# Altium footprint library SelfDrivingCar_PCB.PcbLib: 33 footprints (part 1 of 3)
Each footprint in its own frame and in the unit in brackets; x right, y up, seen from the top. Pads: shape width x height; smd on the part's side, far side on the other; paste and mask are expansions set on the pad; w line width, h text height; cw(c..) or ccw(c..) is an arc to the next point about the centre after c.
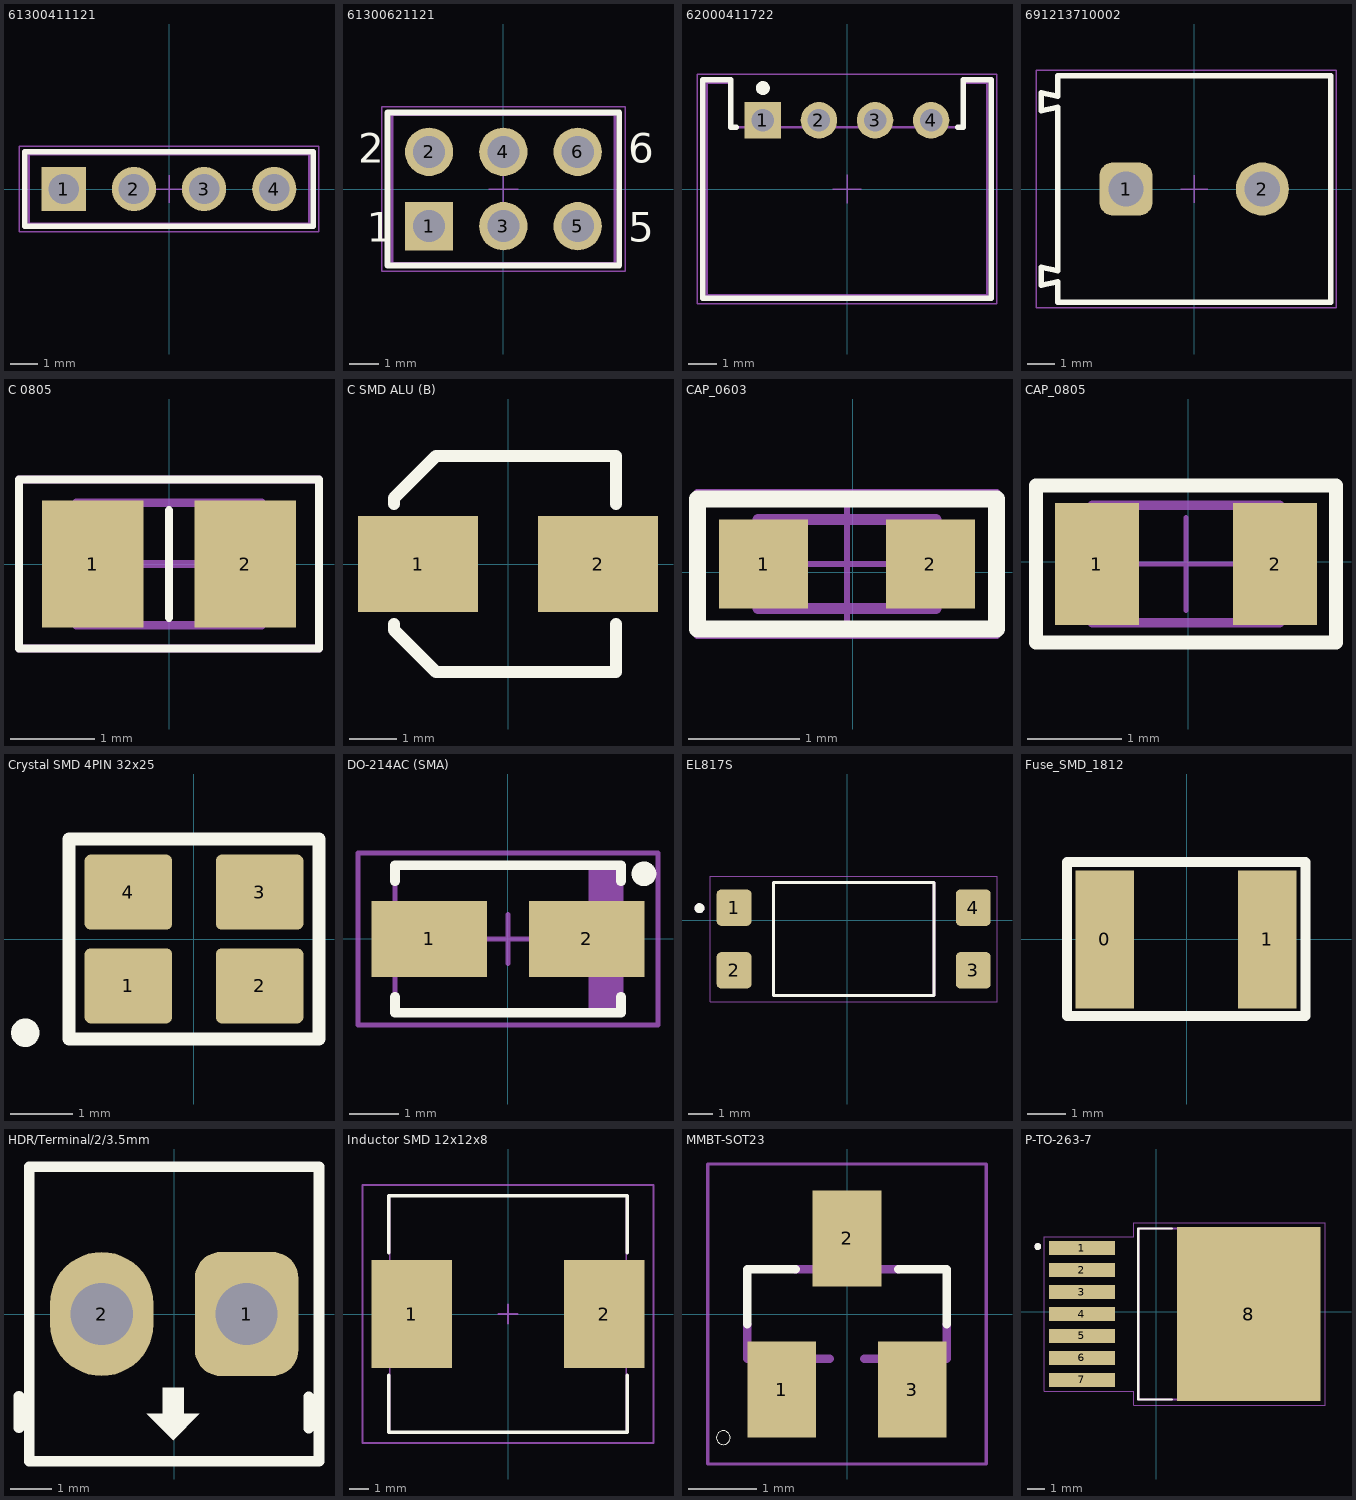
[diagram p0: the footprints below, top view; thin cyan lines are the x and y axes]

## 61300411121 [mm]
pads (4):
  rect 1.6x1.6 hole 1.1: 1(-3.81,0)
  round 1.6 hole 1.1: 2(-1.27,0) 3(1.27,0) 4(3.81,0)
Top Overlay:
  lines w0.2: -5.23,-1.345 5.23,-1.345 5.23,1.345 -5.23,1.345 -5.23,-1.345
Mechanical 13:
  lines w0.1: -5.08,-1.27 -5.08,1.27 5.08,1.27 5.08,-1.27 -5.08,-1.27
Mechanical 15:
  lines w0.05: -0.5,0 0.5,0 ; 0,-0.5 0,0.5 ; -5.43,-1.545 -5.43,1.545 5.43,1.545 5.43,-1.545 -5.43,-1.545
3D body "61300411121.stp": height 8.57, standoff -2.97, extent -5.08,-1.27 5.08,1.27

## 61300621121 [mm]
pads (6):
  rect 1.65x1.65 hole 1.1: 1(-2.54,-1.27)
  round 1.65 hole 1.1: 2(-2.54,1.27) 3(0,-1.27) 4(0,1.27) 5(2.54,-1.27) 6(2.54,1.27)
Top Overlay:
  lines w0.2: -3.96,-2.615 3.96,-2.615 3.96,2.615 -3.96,2.615 -3.96,-2.615
  text "6" at 4.27,0.9 h1.02
  text "5" at 4.27,-1.8 h1.02
  text "2" at -4.97,0.9 h1.02
  text "1" at -4.67,-1.8 h1.02
Mechanical 13:
  lines w0.1: -3.81,-2.54 3.81,-2.54 3.81,2.54 -3.81,2.54 -3.81,-2.54
Mechanical 15:
  lines w0.05: -0.5,0 0.5,0 ; 0,-0.5 0,0.5 ; -4.16,-2.815 -4.16,2.815 4.16,2.815 4.16,-2.815 -4.16,-2.815
3D body "61300621121.stp": height 8.59, standoff -2.95, extent -3.81,-2.54 3.81,2.54

## 62000411722 [mm]
pads (4):
  rect 1.3x1.3 hole 0.8: 1(-3,2.45)
  round 1.3 hole 0.8: 2(-1,2.45) 3(1,2.45) 4(3,2.45)
Top Overlay:
  circle w0.25: c-3,3.6 r0.125
  lines w0.2: -3.95,2.2 -4.15,2.2 -4.15,3.9 -5.15,3.9 -5.15,-3.9 5.15,-3.9 5.15,3.9 4.15,3.9 4.15,2.2 3.95,2.2
Mechanical 13:
  lines w0.1: -5,-3.8 5,-3.8 5,3.8 4.15,3.8 4.15,2.2 -4.15,2.2 -4.15,3.8 -5,3.8 -5,-3.8
Mechanical 15:
  lines w0.05: -0.5,0 0.5,0 ; 0,-0.5 0,0.5 ; -5.35,-4.1 -5.35,4.1 5.35,4.1 5.35,-4.1 -5.35,-4.1
3D body "62000411722.stp": height 4.83, standoff -3.27, extent -5,-3.8 5,3.8

## 691213710002 [mm]
pads (2):
  rrect50% 1.95x1.95 hole 1.3: 1(-2.5,0)
  round 1.95 hole 1.3: 2(2.5,0)
Top Overlay:
  lines w0.2: -5.6,-3.525 -5.6,-2.875 -5,-3 -5,3 -5.6,2.875 -5.6,3.525 -5,3.4 -5,4.15 5,4.15 5,-4.15 -5,-4.15 -5,-3.4 -5.6,-3.525
Top Courtyard:
  lines w0.05: -5.8,-4.35 5.2,-4.35 5.2,4.35 -5.8,4.35 -5.8,-4.35
Top 3D Body:
  lines w0.1: -5.6,-3.525 -5.6,-2.875 -5,-3 -5,3 -5.6,2.875 -5.6,3.525 -5,3.4 -5,4.15 5,4.15 5,-4.15 -5,-4.15 -5,-3.4 -5.6,-3.525
Top Designator:
  text ".Designator" at -7.498,-0.5 h1.5
Top Component Outline:
  lines w0.1: -5.6,-3.525 -5,-3.4 -5,-4.15 5,-4.15 5,4.15 -5,4.15 -5,3.4 -5.6,3.525 -5.6,2.875 -5,3 -5,-3 -5.6,-2.875 -5.6,-3.525
Top Component Center:
  lines w0.05: -0.5,0 0.5,0 ; 0,-0.5 0,0.5
3D body "691213710002.stp": height 10.05, standoff -3.75, extent -5.6,-4.15 5,4.15

## C 0805 [mm]
pads (2):
  rect 1.2x1.5 smd: 1(-0.9,0) 2(0.9,0)
Top Overlay:
  lines w0.1: 0,-0.635 0,0.635 ; -1.775,-1 -1.775,1 1.775,1 1.775,-1 -1.775,-1
Mechanical 13:
  lines w0.1: -1.1,-0.725 -1.1,0.725 1.1,0.725 1.1,-0.725 -1.1,-0.725
Mechanical 15:
  lines w0.1: -0.5,0 0.5,0 ; 0,-0.5 0,0.5 ; -1.775,-1 1.775,-1 1.775,1 -1.775,1 -1.775,-1
3D body "cap 0805.step": height 0.6, standoff 0, extent -1,-0.64 1,0.61

## C SMD ALU (B) [mil]
pads (2):
  rect 100x80 smd: 1(-75,0) 2(75,0)
Top Overlay:
  lines w10: -95,-50 -95,-55 -60,-90 90,-90 90,-50 ; -95,50 -95,55 -60,90 90,90 90,50
3D body "User Library-ALU-B.STEP": height 212.6, standoff 0, extent -90.56,-84.65 90.54,84.64

## CAP_0603 [mm]
pads (2):
  rect 0.8x0.8 smd: 1(-0.801,0.076) 2(0.699,0.076)
Top Overlay:
  lines w0.152: -1.395,-0.508 -1.395,0.66 -1.219,0.66 1.295,0.66 1.295,-0.508 -1.395,-0.508
Mechanical 13:
  lines w0.1: -0.851,-0.324 0.749,-0.324 0.749,0.476 -0.851,0.476 -0.851,-0.324
Mechanical 15:
  lines w0.05: -0.551,0.076 0.449,0.076 ; -0.051,-0.424 -0.051,0.576 ; -1.401,-0.574 1.299,-0.574 1.299,0.726 -1.401,0.726 -1.401,-0.574
3D body "1.6x0.8x0.8x0.4.stp": height 0.8, standoff 0, extent -0.851,-0.324 0.749,0.476

## CAP_0805 [mm]
pads (2):
  rect 0.9x1.3 smd: 1(-0.975,-0.025) 2(0.925,-0.025)
Top Overlay:
  lines w0.152: -1.626,-0.864 -1.626,0.813 -1.473,0.813 1.575,0.813 1.575,-0.864 -1.626,-0.864
Mechanical 13:
  lines w0.1: -1.025,-0.65 0.975,-0.65 0.975,0.6 -1.025,0.6 -1.025,-0.65
Mechanical 15:
  lines w0.05: -0.525,-0.025 0.475,-0.025 ; -0.025,-0.525 -0.025,0.475 ; -1.625,-0.9 -1.625,0.85 1.575,0.85 1.575,-0.9 -1.625,-0.9
3D body "2x1.25x0.6x0.5.stp": height 0.6, standoff 0, extent -1.025,-0.65 0.975,0.6

## Crystal SMD 4PIN 32x25 [mm]
pads (4):
  rrect15% 1.4x1.2 smd: 1(-1.05,-0.75) 2(1.05,-0.75) 3(1.05,0.75) 4(-1.05,0.75)
Top Overlay:
  circle w0.254: c-2.7,-1.5 r0.1
  lines w0.203: -2,-1.6 2,-1.6 2,1.6 -2,1.6 -2,-1.6
3D body "User Library-User Library-Siward_SX3225.step": height 0.81, standoff 0, extent -1.6,-1.25 1.6,1.25

## DO-214AC (SMA) [mm]
pads (2):
  rect 2.35x1.55 smd: 1(-1.6,0) 2(1.6,0)
Top Overlay:
  circle w0.25: c2.765,1.325 r0.125
  lines w0.2: -2.3,-1.175 -2.3,-1.5 2.3,-1.5 2.3,-1.175 ; -2.3,1.175 -2.3,1.5 2.3,1.5 2.3,1.175
Mechanical 13:
  rectangle: 1.637,-1.45 2.256,1.45
  lines w0.1: -2.3,-1.45 2.3,-1.45 2.3,1.45 -2.3,1.45 -2.3,-1.45
Mechanical 15:
  lines w0.1: -0.5,0 0.5,0 ; 0,-0.5 0,0.5 ; -3.05,-1.75 3.05,-1.75 3.05,1.75 -3.05,1.75 -3.05,-1.75
3D body "User Library-DO-214AC SMA.step": height 2.4, standoff 0, extent -2.6,-1.295 2.6,1.305

## EL817S [mm]
pads (4):
  rrect25% 1.41x1.47 smd: 1(-4.596,0.508) 2(-4.596,-2.032) 3(5.104,-2.032) 4(5.104,0.508)
Top Overlay:
  circle w0.2: c-5.996,0.488 r0.1
  lines w0.127: -2.996,-3.052 3.504,-3.052 3.504,1.528 -2.996,1.528 -2.996,-3.052
Mechanical 13:
  circle w0.2: c-5.996,0.488 r0.1
  lines w0.127: -2.996,-3.052 -2.996,1.528 3.504,1.528 3.504,-3.052 -2.996,-3.052
Mechanical 15:
  lines w0.05: -5.556,-3.302 -5.556,1.778 6.064,1.778 6.064,-3.302 -5.556,-3.302
3D body "step_temp.STEP": height 4.6, standoff 0, extent -4.896,-3.052 5.404,1.528

## Fuse_SMD_1812 [mil]
pads (2):
  rect 60x140 smd: 0(-83.41,0) 1(82,0)
Top Overlay:
  lines w10: -122,-78 -122,79 121,79 121,-78 -122,-78
3D body "miniSMDC150F.STEP": height 17.9, standoff -1, extent -93.11,-67.13 93.11,67.13

## HDR/Terminal/2/3.5mm [mm]
pads (2):
  rrect50% 2.5x3 hole 1.5: 1(1.75,0)
  oval 2.5x3 hole 1.5: 2(-1.75,0)
Top Overlay:
  region: -0.028,-3.048 0.607,-2.413 0.226,-2.413 0.226,-1.778 -0.282,-1.778 -0.282,-2.413 -0.663,-2.413
  lines w0.254: -3.75,-2.75 -3.75,-1.988 ; 3.25,-2.762 3.25,-2 ; -3.5,-3.556 -3.5,3.556 3.5,3.556 3.5,-3.556 -3.5,-3.556
3D body "User Library-Terminal Block 2 way 3.5mm.step": height 8.51, standoff -3.5, extent -3.556,-3.645 3.556,3.645

## Inductor SMD 12x12x8 [mm]
pads (2):
  rect 4.2x5.6 smd: 1(-5,0) 2(5,0)
Top Overlay:
  lines w0.2: -6.2,-3.2 -6.2,-6.15 6.2,-6.15 6.2,-3.2 ; -6.2,3.2 -6.2,6.15 6.2,6.15 6.2,3.2
Mechanical 13:
  lines w0.1: -6.15,-6.15 -6.15,6.15 6.15,6.15 6.15,-6.15 -6.15,-6.15
Mechanical 15:
  lines w0.1: -0.5,0 0.5,0 ; 0,-0.5 0,0.5 ; -7.575,-6.7 -7.575,6.7 7.575,6.7 7.575,-6.7 -7.575,-6.7
3D body "User Library-DRQ127_12_5x12_5.step": height 8.01, standoff 0.01, extent -6.25,-6.25 6.25,6.25

## MMBT-SOT23 [mm]
pads (3):
  rect 1x1.4 smd: 1(-0.95,-1.1) 2(0,1.1) 3(0.95,-1.1)
Top Overlay:
  circle w0: c-1.8,-1.8 r0.1
  lines w0.127: -1.45,-0.15 -1.45,0.65 -0.75,0.65 ; 0.75,0.65 1.45,0.65 1.45,-0.15
Mechanical 13:
  region: -0.711,-1.298 -1.171,-1.298 -1.171,-0.711 -0.711,-0.711
  region: 1.168,-1.296 0.712,-1.296 0.712,-0.711 1.168,-0.711
  region: 0.229,0.711 -0.229,0.711 -0.229,1.295 0.229,1.295
  lines w0.127: -1.45,-0.15 -1.45,-0.65 -0.25,-0.65 ; -0.75,0.65 0.75,0.65 ; 0.25,-0.65 1.45,-0.65 1.45,-0.15
Mechanical 15:
  lines w0.051: -2.023,-2.183 -2.023,2.183 2.023,2.183 2.023,-2.183 -2.023,-2.183
3D body "MMBT3904.STEP": height 1.1, standoff 0, extent -1.45,-1.3 1.45,1.2

## P-TO-263-7 [mm]
pads (8):
  rect 3.81x0.8 smd: 1(-4.299,3.683) 2(-4.299,2.413) 3(-4.299,1.143) 4(-4.299,-0.127) 5(-4.299,-1.397) 6(-4.299,-2.667) 7(-4.299,-3.937)
  rect 8.29x10.07 smd paste-4.36: 8(5.361,-0.127)
Top Overlay:
  circle w0.2: c-6.849,3.773 r0.1
  lines w0.127: 0.902,-5.077 -1.039,-5.077 -1.039,4.823 0.902,4.823
Top Paste:
  region: 6.186,1.218 4.536,1.218 4.536,2.568 6.186,2.568
  region: 6.186,3.238 4.536,3.238 4.536,4.588 6.186,4.588
  region: 6.186,-2.822 4.536,-2.822 4.536,-1.472 6.186,-1.472
  region: 6.186,-4.842 4.536,-4.842 4.536,-3.492 6.186,-3.492
  region: 8.946,3.238 7.296,3.238 7.296,4.588 8.946,4.588
  region: 8.946,1.218 7.296,1.218 7.296,2.568 8.946,2.568
  region: 8.946,-0.802 7.296,-0.802 7.296,0.548 8.946,0.548
  region: 8.946,-2.822 7.296,-2.822 7.296,-1.472 8.946,-1.472
  region: 8.946,-4.842 7.296,-4.842 7.296,-3.492 8.946,-3.492
  region: 3.426,-4.842 1.776,-4.842 1.776,-3.492 3.426,-3.492
  region: 3.426,-2.822 1.776,-2.822 1.776,-1.472 3.426,-1.472
  region: 3.426,-0.802 1.776,-0.802 1.776,0.548 3.426,0.548
  region: 3.426,1.218 1.776,1.218 1.776,2.568 3.426,2.568
  region: 3.426,3.238 1.776,3.238 1.776,4.588 3.426,4.588
Mechanical 13:
  circle w0.2: c-6.849,3.773 r0.1
  lines w0.127: -1.039,-5.077 8.361,-5.077 8.361,4.823 -1.039,4.823 -1.039,-5.077
Mechanical 15:
  lines w0.05: -6.459,-4.587 -1.289,-4.587 -1.289,-5.417 9.761,-5.417 9.761,5.163 -1.289,5.163 -1.289,4.333 -6.459,4.333 -6.459,-4.587
3D body "step_temp.STEP": height 4.4, standoff 0, extent -5.799,-5.077 9.101,4.823